# EAGLE library part HEADER14 (library robots)
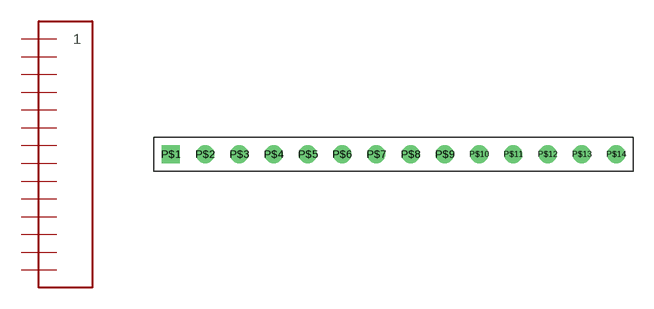
[diagram p8: symbol with the pads of 1X14; footprint 1X14]

Designator prefix -

## HEADER14  [1X14]
P$1  1
P$2  P$2
P$3  P$3
P$4  P$4
P$5  P$5
P$6  P$6
P$7  P$7
P$8  P$8
P$9  P$9
P$10  P$10
P$11  P$11
P$12  P$12
P$13  P$13
P$14  P$14

## Footprint 1X14 (pad centres in mm)
drill 0.813 square: P$1 0,0
drill 0.813 round: P$2 2.54,0; P$3 5.08,0; P$4 7.62,0; P$5 10.16,0; P$6 12.7,0; P$7 15.24,0; P$8 17.78,0; P$9 20.32,0; P$10 22.86,0; P$11 25.4,0; P$12 27.94,0; P$13 30.48,0; P$14 33.02,0